# Altium schematic symbol library Schlib1.SchLib: 23 symbols
Pins are listed as number, name and electrical type; pins without a type are passive.

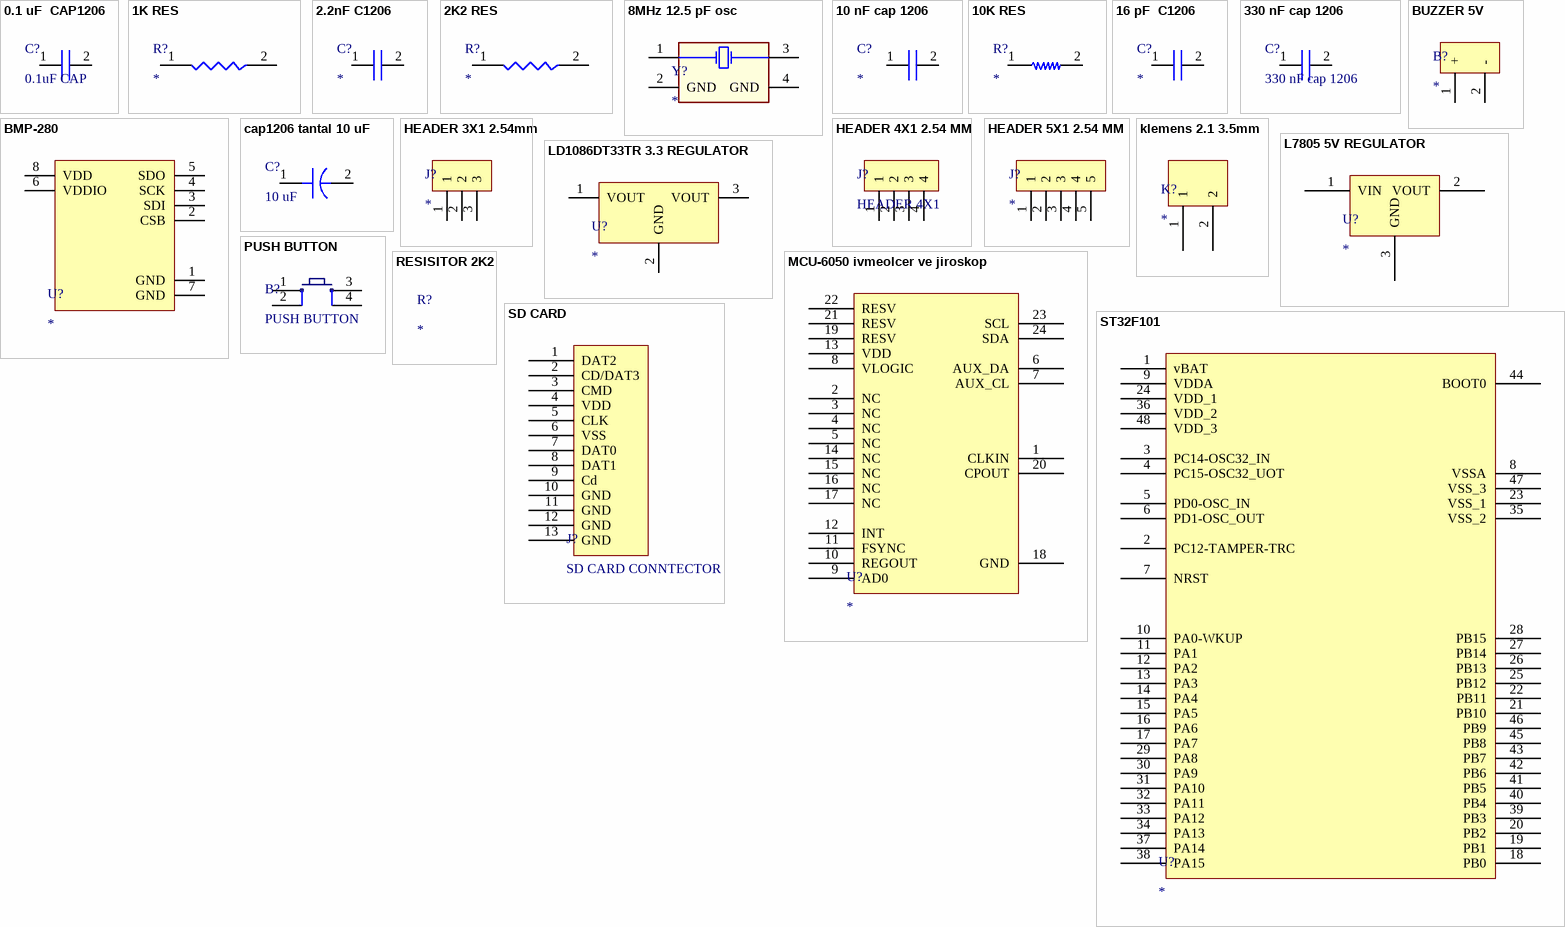
[diagram p0: symbols 0.1 uF  CAP1206 to ST32F101]

## 0.1 uF  CAP1206
designator C?, comment 0.1uF CAP
footprint CAP 1206 - 50V 0.1uF smd
pins: 1, 2 1

## 1K RES
designator R?
footprint RESISTORS
pins: 1, 2

## 2.2nF C1206
designator C?
footprint CAP 1206 - 50V 0.1uF smd
pins: 1, 2 1

## 2K2 RES
designator R?
footprint RESISTORS
pins: 1, 2

## 8MHz 12.5 pF osc
designator Y?
footprint 8 MHz 12.5 pF OSC
pins: 1 (power) "Regulator Input Supply. Bypass IN to GND with a 1 uF or greater capacitor.", 2 GND (power) "Ground.", 3 "Enable Input. Drive EN high to turn on the regulator; drive it low to turn off the regulator. For automatic startup, connect EN to IN.", 4 GND "Connect a 1 nF or greater capacitor (10 nF is recommended) between BYP and GND to reduce the internal reference noise for low noise applications."

## 10 nF cap 1206
designator C?
footprint CAP 1206 - 50V 0.1uF smd
pins: 1, 2 1

## 10K RES
designator R?
footprint RESISTORS
pins: 1, 2

## 16 pF  C1206
designator C?
footprint CAP 1206 - 50V 0.1uF smd
pins: 1, 2 1

## 330 nF cap 1206
designator C?
footprint CAP 1206 - 50V 0.1uF smd
pins: 1, 2 1

## BMP-280
designator U?
BASINC SENSORU / https://ozdisan.com/optolar-ve-sensorler/sensorler/basinc-sensorleri/BMP280?gclid=Cj0KCQjwmZejBhC_ARIsAGhCqndlij6IrBOvBeDoWfjz10s7tOHoGpSsfqmzCZxfY9KOK81rPqgoNswaAu1REALw_wcB
footprint MPU-280 BASINC SENSOR
pins: 1 GND, 2 CSB, 3 SDI, 4 SCK, 5 SDO, 6 VDDIO, 7 GND, 8 VDD

## BUZZER 5V
designator B?
footprint BUZZER 5V
pins: 1 +, 2 -

## cap1206 tantal 10 uF
designator C?, comment 10 uF
footprint TANTAL CAP 1206 10 nF
pins: 1, 2

## HEADER 3X1 2.54mm
designator J?
footprint HEADER 2.54mm 3x1
pins: 1, 2, 3

## HEADER 4X1 2.54 MM
designator J?, comment HEADER 4X1
footprint HEADER 4X1 2.54 MM
pins: 1, 2, 3, 4

## HEADER 5X1 2.54 MM
designator J?
footprint HEADER 5X1 2.54MM
pins: 1, 2, 3, 4, 5

## klemens 2.1 3.5mm
designator K?
footprint KLEMENS 1.2 3.5MM
pins: 1, 2

## L7805 5V REGULATOR
designator U?
L7805 5V REGULATOR SMD DPACK
footprint DPAK L7805CDT-TR (D-PAK, 3-Pads, Body 6,10x6,56mm (max), IPC Medium Density)
pins: 1 VIN, 2 VOUT, 3 GND

## LD1086DT33TR 3.3 REGULATOR
designator U?
footprint DPAK L7805CDT-TR (D-PAK, 3-Pads, Body 6,10x6,56mm (max), IPC Medium Density)
pins: 1 VOUT, 2 GND, 3 VOUT

## MCU-6050 ivmeolcer ve jiroskop
designator U?
footprint MCU-6050 ivmeolcer ve jiroskop (QFN, 24-Leads, Body 4,00x4,00mm, Pitch 0,50mm, Thermal Pad 2,60x2,70mm, IPC Medium Density)
pins: 1 CLKIN, 2 NC, 3 NC, 4 NC, 5 NC, 6 AUX_DA, 7 AUX_CL, 8 VLOGIC, 9 AD0, 10 REGOUT, 11 FSYNC, 12 INT, 13 VDD, 14 NC, 15 NC, 16 NC, 17 NC, 18 GND, 19 RESV, 20 CPOUT, 21 RESV, 22 RESV, 23 SCL, 24 SDA

## PUSH BUTTON
designator B?
footprint PUSH BUTON (P?)
pins: 1, 2, 3, 4

## RESISITOR 2K2
designator R?

## SD CARD
designator J?, comment SD CARD CONNTECTOR
footprint MICRO SD CARD
pins: 1 DAT2, 2 CD/DAT3, 3 CMD, 4 VDD, 5 CLK, 6 VSS, 7 DAT0, 8 DAT1, 9 Cd, 10 GND, 11 GND, 12 GND, 13 GND

## ST32F101
designator U?
STM32 LQFP48 40 PİNLİ MIKROİŞLEMCİ
footprint LQFP48-STM32 (TSQFP, 48-Leads, Body 7,00x7,00mm, Pitch 0,50mm, IPC Medium Density)
pins: 1 vBAT, 2 PC12-TAMPER-TRC, 3 PC14-OSC32_IN, 4 PC15-OSC32_UOT, 5 PD0-OSC_IN, 6 PD1-OSC_OUT, 7 NRST, 8 VSSA, 9 VDDA, 10 PA0-WKUP, 11 PA1, 12 PA2, 13 PA3, 14 PA4, 15 PA5, 16 PA6, 17 PA7, 18 PB0, 19 PB1, 20 PB2, 21 PB10, 22 PB11, 23 VSS_1, 24 VDD_1, 25 PB12, 26 PB13, 27 PB14, 28 PB15, 29 PA8, 30 PA9, 31 PA10, 32 PA11, 33 PA12, 34 PA13, 35 VSS_2, 36 VDD_2, 37 PA14, 38 PA15, 39 PB3, 40 PB4, 41 PB5, 42 PB6, 43 PB7, 44 BOOT0, 45 PB8, 46 PB9, 47 VSS_3, 48 VDD_3